# EAGLE library part DIGISPARK (library personal_srgPersonal)
Digispark http://digistump.com/wiki/digispark
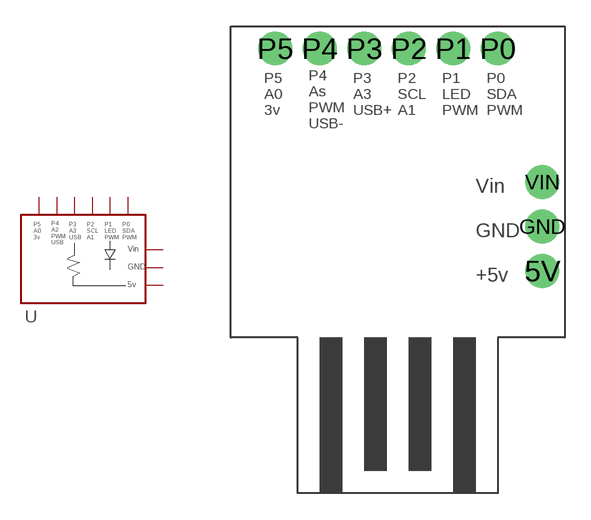
[diagram p11: symbol with the pads of DIGISPARK; footprint DIGISPARK]

Designator prefix -

## DIGISPARK  [DIGISPARK]
5V  5V  pwr
GND  GND  pwr
P0  P0
P1  P1
P2  P2
P3  P3
P4  P4
P5  P5
VIN  VIN  pwr

## Footprint DIGISPARK (pad centres in mm)
DigiSpark
drill 1 pad 1.93: 5V 17.78,3.81; GND 17.78,6.35; P0 15.24,16.51; P1 12.7,16.51; P2 10.16,16.51; P3 7.62,16.51; P4 5.08,16.51; P5 2.54,16.51; VIN 17.78,8.89